# EAGLE library part FLAT-FLEX-CONNECTOR-RA-06POS (library FlashPCB_Connectors)
FLAT-FLEX-CONNECTOR-RA-06POS - Flat Flex Connector 6 position Right Angle Technical Specifications: Number of Positions: 6 Contact: Top or Bottom Mount: Right Angle
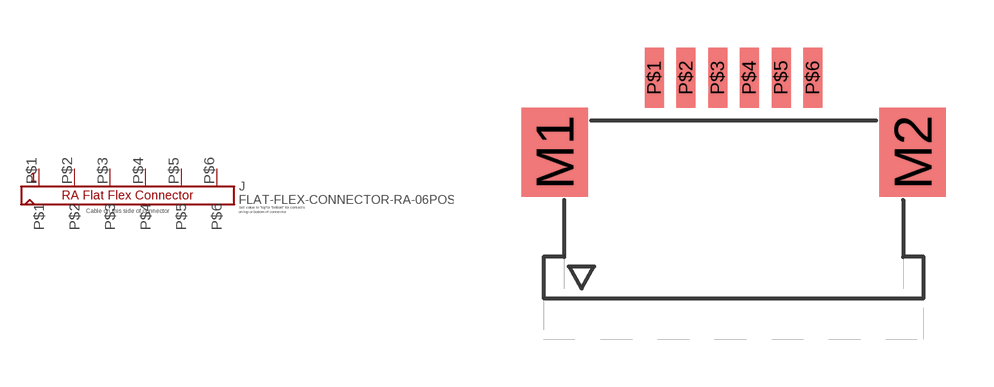
[diagram p104: symbol with the pads of FLAT-FLEX-CONNECTOR-MOLEX-522XX-RA-06POS; footprint FLAT-FLEX-CONNECTOR-MOLEX-522XX-RA-06POS]

Designator prefix J

## FLAT-FLEX-CONNECTOR-RA-06POS1MM-PITCH  [FLAT-FLEX-CONNECTOR-MOLEX-522XX-RA-06POS]
P$1  P$1
P$2  P$2
P$3  P$3
P$4  P$4
P$5  P$5
P$6  P$6

## Footprint FLAT-FLEX-CONNECTOR-MOLEX-522XX-RA-06POS (pad centres in mm)
smd 2.1 x 2.8: M1 -5.65,-1.4; M2 5.65,-1.4
smd 0.6 x 1.9: P$1 -2.5,0.95; P$2 -1.5,0.95; P$3 -0.5,0.95; P$4 0.5,0.95; P$5 1.5,0.95; P$6 2.5,0.95